# Altium integrated library lib-Mechanical.IntLib: 2 symbols
Pins are listed as number, name and electrical type; pins without a type are passive.

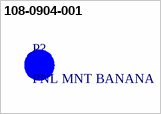
[diagram p0: symbol 108-0904-001]

## 108-0904-001
designator P?, comment PNL MNT BANANA  (mechanical)
Banana Jack Connector Standard Banana Solder Tabs Green; Manufacturer 1: *Cinch Connectivity Solutions Johnson; Manufacturer Part Number 1: 108-0904-001; Supplier 1: Digikey; Supplier Part Number 1: J153-ND


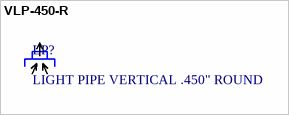
[diagram p1: symbol VLP-450-R]

## VLP-450-R
designator LP?, comment LIGHT PIPE VERTICAL .450" ROUND
Light Pipe Single Clear Rigid Round with Domed Top, 3mm Panel Mount, Press Fit; Manufacturer Part Number 1: VLP-450-R; Manfacturer 1: Bivar Inc.; ComponentLink1Description: Drawing; ComponentLink1URL: https://www.bivar.com/portals/0/products/VLP-XXX-X.pdf; Supplier 1: Digikey; Supplier Part Number 1: 492-1347-ND
footprint VLP-450-R